# Altium schematic symbol library U_TPS92515.SchLib: 1 symbol
Pins are listed as number, name and electrical type; pins without a type are passive.

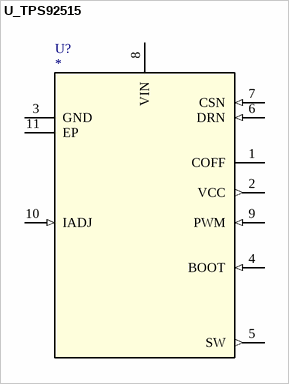
[diagram p0: symbol U_TPS92515]

## U_TPS92515
designator U?
pins: 1 COFF (power), 2 VCC (out), 3 GND (power), 4 BOOT (in), 5 SW (out), 6 DRN (in), 7 CSN (in), 8 VIN (power), 9 PWM (in), 10 IADJ (in), 11 EP